# EAGLE library part RENESAS_R7FS3A6783A01CFLAA0 (library 3D_MIG_Controller)
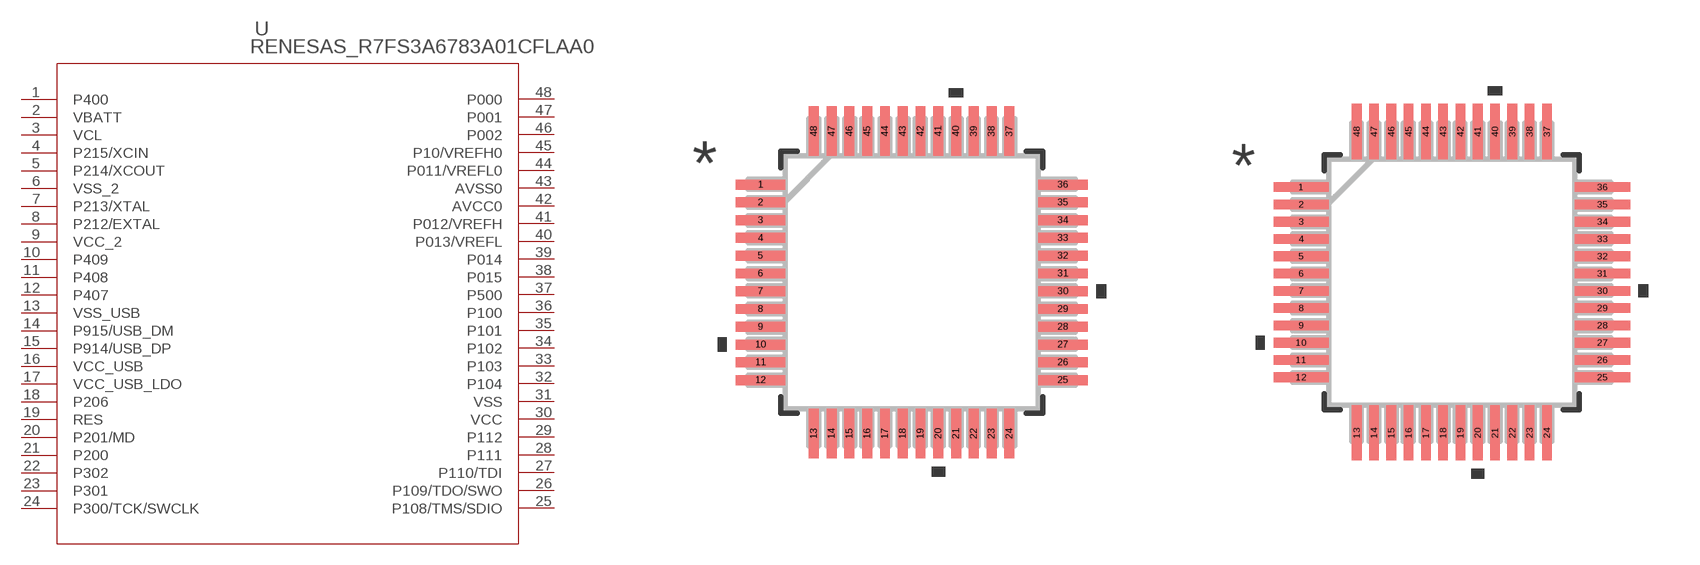
[diagram p72: symbol with the pads of PLQP0048KB-B_REN; footprints PLQP0048KB-B_REN, PLQP0048KB-B_REN-M]

Designator prefix U

## RENESAS_R7FS3A6783A01CFLAA0 (BUILT_BY: EMA_Cory; COPYRIGHT: Copyright (C) 2021 Accelerated Designs. All rights reserved; DATASHEET: https://www.renesas.com/us/en/document/dst/s3a6-microcontroller-group-datasheet-r01ds0308eu0120?language=en; MANUFACTURER_PART_NUMBER: R7FS3A6783A01CFL#AA0; SOURCELIBRARY: Add_to_database_2021-06-10; VENDOR: Renesas Electronics)  [PLQP0048KB-B_REN]
1  P400
2  VBATT  pas
3  VCL  pas
4  P215/XCIN
5  P214/XCOUT  out
6  VSS_2  pas
7  P213/XTAL
8  P212/EXTAL
9  VCC_2  pwr
10  P409
11  P408
12  P407
13  VSS_USB  pas
14  P915/USB_DM
15  P914/USB_DP
16  VCC_USB  pwr
17  VCC_USB_LDO  pwr
18  P206
19  RES  pas
20  P201/MD
21  P200
22  P302
23  P301
24  P300/TCK/SWCLK
25  P108/TMS/SDIO
26  P109/TDO/SWO
27  P110/TDI
28  P111
29  P112
30  VCC  pwr
31  VSS  pas
32  P104
33  P103
34  P102
35  P101
36  P100
37  P500
38  P015
39  P014
40  P013/VREFL  pwr
41  P012/VREFH  pwr
42  AVCC0  pwr
43  AVSS0  pas
44  P011/VREFL0  pwr
45  P10/VREFH0  pwr
46  P002
47  P001
48  P000

## RENESAS_R7FS3A6783A01CFLAA0PLQP0048KB-B_REN-M (BUILT_BY: EMA_Cory; COPYRIGHT: Copyright (C) 2021 Accelerated Designs. All rights reserved; DATASHEET: https://www.renesas.com/us/en/document/dst/s3a6-microcontroller-group-datasheet-r01ds0308eu0120?language=en; MANUFACTURER_PART_NUMBER: R7FS3A6783A01CFL#AA0; SOURCELIBRARY: Add_to_database_2021-06-10; VENDOR: Renesas Electronics)  [PLQP0048KB-B_REN-M]
Pads as for PLQP0048KB-B_REN

## RENESAS_R7FS3A6783A01CFLAA0PLQP0048KB-B_REN-L (BUILT_BY: EMA_Cory; COPYRIGHT: Copyright (C) 2021 Accelerated Designs. All rights reserved; DATASHEET: https://www.renesas.com/us/en/document/dst/s3a6-microcontroller-group-datasheet-r01ds0308eu0120?language=en; MANUFACTURER_PART_NUMBER: R7FS3A6783A01CFL#AA0; SOURCELIBRARY: Add_to_database_2021-06-10; VENDOR: Renesas Electronics)  [PLQP0048KB-B_REN-L]
Pads as for PLQP0048KB-B_REN

## Footprint PLQP0048KB-B_REN (pad centres in mm)
smd 1.397 x 0.279: 1 -4.255,2.75; 2 -4.255,2.25; 3 -4.255,1.75; 4 -4.255,1.25; 5 -4.255,0.75; 6 -4.255,0.25; 7 -4.255,-0.25; 8 -4.255,-0.75; 9 -4.255,-1.25; 10 -4.255,-1.75; 11 -4.255,-2.25; 12 -4.255,-2.75; 25 4.255,-2.75; 26 4.255,-2.25; 27 4.255,-1.75; 28 4.255,-1.25; 29 4.255,-0.75; 30 4.255,-0.25; 31 4.255,0.25; 32 4.255,0.75; 33 4.255,1.25; 34 4.255,1.75; 35 4.255,2.25; 36 4.255,2.75
smd 0.279 x 1.397: 13 -2.75,-4.255; 14 -2.25,-4.255; 15 -1.75,-4.255; 16 -1.25,-4.255; 17 -0.75,-4.255; 18 -0.25,-4.255; 19 0.25,-4.255; 20 0.75,-4.255; 21 1.25,-4.255; 22 1.75,-4.255; 23 2.25,-4.255; 24 2.75,-4.255; 37 2.75,4.255; 38 2.25,4.255; 39 1.75,4.255; 40 1.25,4.255; 41 0.75,4.255; 42 0.25,4.255; 43 -0.25,4.255; 44 -0.75,4.255; 45 -1.25,4.255; 46 -1.75,4.255; 47 -2.25,4.255; 48 -2.75,4.255

## Footprint PLQP0048KB-B_REN-M (pad centres in mm)
smd 1.6 x 0.279: 1 -4.356,2.75; 2 -4.356,2.25; 3 -4.356,1.75; 4 -4.356,1.25; 5 -4.356,0.75; 6 -4.356,0.25; 7 -4.356,-0.25; 8 -4.356,-0.75; 9 -4.356,-1.25; 10 -4.356,-1.75; 11 -4.356,-2.25; 12 -4.356,-2.75; 25 4.356,-2.75; 26 4.356,-2.25; 27 4.356,-1.75; 28 4.356,-1.25; 29 4.356,-0.75; 30 4.356,-0.25; 31 4.356,0.25; 32 4.356,0.75; 33 4.356,1.25; 34 4.356,1.75; 35 4.356,2.25; 36 4.356,2.75
smd 0.279 x 1.6: 13 -2.75,-4.356; 14 -2.25,-4.356; 15 -1.75,-4.356; 16 -1.25,-4.356; 17 -0.75,-4.356; 18 -0.25,-4.356; 19 0.25,-4.356; 20 0.75,-4.356; 21 1.25,-4.356; 22 1.75,-4.356; 23 2.25,-4.356; 24 2.75,-4.356; 37 2.75,4.356; 38 2.25,4.356; 39 1.75,4.356; 40 1.25,4.356; 41 0.75,4.356; 42 0.25,4.356; 43 -0.25,4.356; 44 -0.75,4.356; 45 -1.25,4.356; 46 -1.75,4.356; 47 -2.25,4.356; 48 -2.75,4.356

## Footprint PLQP0048KB-B_REN-L (pad centres in mm)
smd 1.168 x 0.229: 1 -4.166,2.75; 2 -4.166,2.25; 3 -4.166,1.75; 4 -4.166,1.25; 5 -4.166,0.75; 6 -4.166,0.25; 7 -4.166,-0.25; 8 -4.166,-0.75; 9 -4.166,-1.25; 10 -4.166,-1.75; 11 -4.166,-2.25; 12 -4.166,-2.75; 25 4.166,-2.75; 26 4.166,-2.25; 27 4.166,-1.75; 28 4.166,-1.25; 29 4.166,-0.75; 30 4.166,-0.25; 31 4.166,0.25; 32 4.166,0.75; 33 4.166,1.25; 34 4.166,1.75; 35 4.166,2.25; 36 4.166,2.75
smd 0.229 x 1.168: 13 -2.75,-4.166; 14 -2.25,-4.166; 15 -1.75,-4.166; 16 -1.25,-4.166; 17 -0.75,-4.166; 18 -0.25,-4.166; 19 0.25,-4.166; 20 0.75,-4.166; 21 1.25,-4.166; 22 1.75,-4.166; 23 2.25,-4.166; 24 2.75,-4.166; 37 2.75,4.166; 38 2.25,4.166; 39 1.75,4.166; 40 1.25,4.166; 41 0.75,4.166; 42 0.25,4.166; 43 -0.25,4.166; 44 -0.75,4.166; 45 -1.25,4.166; 46 -1.75,4.166; 47 -2.25,4.166; 48 -2.75,4.166